# Altium integrated library Linear Technology Power Management Switching Regulator LTC1174-LTC3901.IntLib: 2647 symbols (part 96 of 364)
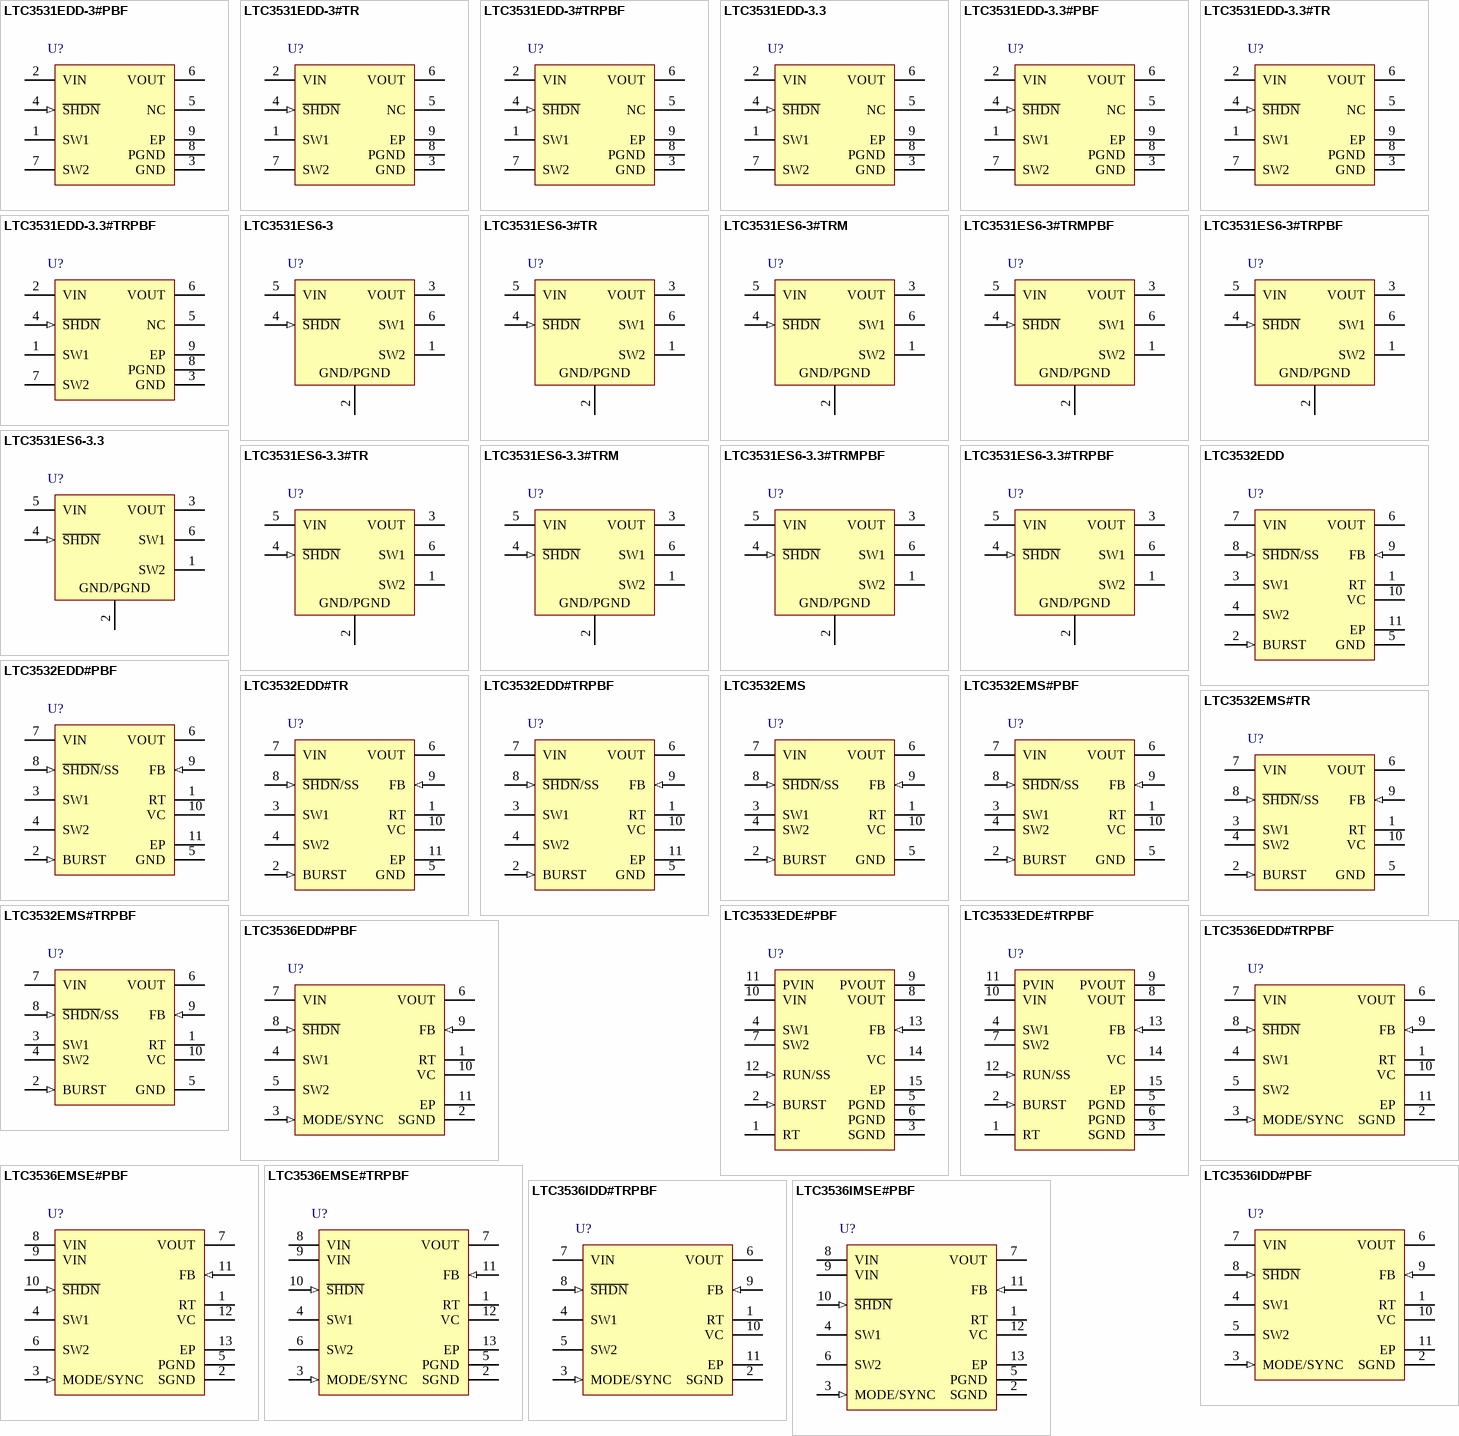
[diagram p164: symbols LTC3531EDD-3#PBF to LTC3536IMSE#PBF]

## LTC3532EMS#TRPBF
designator U?
Micropower Synchronous Buck-Boost DC/DC Converter, 10-pin SOP (MS-10), -40 to 85 degC, Pb-Free, Tape and Reel; Manufacturer: Linear Technology; PartNumber: LTC3532EMS#TRPBF; Frequency Adjust Range: 300kHz - 2MHz; Number of Outputs: 1; DatasheetVersion: Rev. C; PackageVersion: Rev. E, 06/2010; PackageReference: MS-10; PackageDescription: 10-Pin Plastic MSOP, Body 3 x 3 mm, Pitch 0.5 mm; Supplier 1: Digi-Key; Supplier Part Number 1: LTC3532EMS#TRPBF-ND; Packing: Tape and Reel; RoHS: TRUE; Mounting Technology: Surface Mount; ComponentLink1Description: Manufacturer URL; ComponentLink1URL: http://www.linear.com/; ComponentLink2Description: Datasheet; ComponentLink2URL: http://cds.linear.com/docs/en/datasheet/3532fc.pdf; ComponentLink3Description: Package Specification; ComponentLink3URL: http://cds.linear.com/docs/en/packaging/05081661_F_MS.pdf
footprint LT-MS-10_N (SOP, 10-Leads, Body 3.1x3.1mm, Pitch 0.5mm, IPC Medium Density)
footprint LT-MS-10_L (SOP, 10-Leads, Body 3.1x3.1mm, Pitch 0.5mm, IPC High Density)
footprint LT-MS-10_M (SOP, 10-Leads, Body 3.1x3.1mm, Pitch 0.5mm, IPC Low Density)
pins: 1 RT, 2 BURST (in) "Used to Set the Automatic Burst Mode Operation Threshold. Place a resistor and capacitor in parallel from this pin to ground. See the Applications Information section for component value selection. For manual control, ground (See Datasheet)", 3 SW1 "Switch Pin Where the Internal Switches A and B are Connected. Connect inductor from SW1 to SW2. An optional Schottky diode can be connected from SW1 to ground. Minimize trace length to minimize EMI.", 4 SW2 "Switch Pin Where the Internal Switches C and D are Connected. For applications with output voltages over 4.3V, a Schottky diode is required from SW2 to VOUT to ensure SW2 does not exhibit excess voltage.", 5 GND (power) "Signal and Power Ground for the IC.", 6 VOUT (power) "Output of the Synchronous Rectifier. A filter capacitor is placed from VOUT to GND.", 7 VIN (power) "Input Supply Pin. Supplies current to the inductor through SW1 and supplies internal VCC for the IC. A ceramic bypass capacitor as close to the VIN pin and GND (Pin 5) is required.", 8 ~{SHDN}/SS (in), 9 FB (in), 10 VC "Error Amp Output: A frequency compensation network is connected from this pin to the FB pin to compensate the loop. Refer to the Applications Information section for component value selection."

## LTC3533EDE#PBF
designator U?
2 A Wide Input Voltage Synchronous Buck-Boost DC/DC Converter, 14-pin SON (DE-14), -40 to 85 degC, Pb-Free; Manufacturer: Linear Technology; PartNumber: LTC3533EDE#PBF; Frequency Adjust Range: 300kHz - 2MHz; Number of Outputs: 1; PackageVersion: Rev. B, 06/2010; PackageReference: DE-14; PackageDescription: 14-Pin Plastic DFN, Body 4 x 3 mm, Pitch 0.5 mm; Supplier 1: Digi-Key; Supplier Part Number 1: LTC3533EDE#PBF-ND; Supplier 2: Farnell; Supplier Part Number 2: 1663712; Supplier 3: Newark; Supplier Part Number 3: 56M7960; RoHS: TRUE; Mounting Technology: Surface Mount; Code_JEDEC: MO-229; ComponentLink1Description: Manufacturer URL; ComponentLink1URL: http://www.linear.com/; ComponentLink2Description: Datasheet; ComponentLink2URL: http://cds.linear.com/docs/en/datasheet/3533f.pdf; ComponentLink3Description: Package Specification; ComponentLink3URL: http://www.linear.com/docs/en/packaging/DFN_14_05-08-1708.pdf
footprint LT-DE-14_V (SON, 14-Leads, Body 4x3mm, Pitch 0.5mm, Thermal Pad 3.3x1.7mm)
pins: 1 RT "Programs the Frequency of the Internal Oscillator. Connect a resistor from RT to ground. f(kHz) = 33,170/RT (kohm)", 2 BURST (in) "Used to set the Automatic Burst Mode Threshold. Connect a resistor and capacitor in parallel from this pin to ground. See the Applications Information section for component value selection. For manual control, ground the pin (See Datasheet)", 3 SGND (power) "Signal ground for the IC.", 4 SW1 "Switch Pin where Internal Switches A and B are Connected. Connect inductor from SW1 to SW2. An optional Schottky diode can be connected from SW1 to ground for a moderate efficiency improvement. Minimize trace length to (See Datasheet)", 5 PGND (power) "Power Ground for the Internal NMOS Power Switches.", 6 PGND (power) "Power Ground for the Internal NMOS Power Switches.", 7 SW2 "Switch Pin where Internal Switches C and D are Connected. An optional Schottky diode can be connected from SW2 to VOUT for a moderate efficiency improvement. For applications with output voltages over 4.3V, this Schottky (See Datasheet)", 8 VOUT (power) "Voltage Sensing Pin for PVOUT and Input Supply Pin for Internal Circuitry Powered by PVOUT. A filter capacitor is placed from VOUT to GND. A ceramic bypass capacitor is recommended as close to the VOUT and GND pins as (See Datasheet)", 9 PVOUT (power) "Output of the Synchronous Rectifier. A filter capacitor is placed from PVOUT to PGND. A ceramic bypass capacitor is recommended as close to the PVOUT and PGND pins as possible.", 10 VIN (power) "Input Supply Pin. Internal VCC for the IC.", 11 PVIN (power) "Power VIN Supply Pin. A 10uF ceramic capacitor is recommended as close to the PVIN and PGND pins as possible.", 12 RUN/SS (in) "Combined Enable and Soft-Start. Applied voltage <0.4V shuts down the IC. Tie to >1.4V to enable the IC and >1.6V to ensure the error amp is not clamped from soft-start. An RC from the shutdown command signal to this pin will (See Datasheet)", 13 FB (in) "Feedback Pin. Connect resistor divider tap here. The output voltage can be adjusted from 1.8V to 5.25V. The feedback reference voltage is typically 1.22V.", 14 VC "Error Amp Output. An R-C network is connected from this pin to FB for loop compensation. Refer to “Closing the Feedback Loop” section for component selection guidelines. During Burst Mode operation, VC is internal(See Datasheet)", 15 EP (power) "IC Substrate Ground. This pin must be soldered to the PCB ground to provide both electrical contact and a good thermal contact to the PCB."

## LTC3533EDE#TRPBF
designator U?
2 A Wide Input Voltage Synchronous Buck-Boost DC/DC Converter, 14-pin SON (DE-14), -40 to 85 degC, Pb-Free, Tape and Reel; Manufacturer: Linear Technology; PartNumber: LTC3533EDE#TRPBF; Frequency Adjust Range: 300kHz - 2MHz; Number of Outputs: 1; PackageVersion: Rev. B, 06/2010; PackageReference: DE-14; PackageDescription: 14-Pin Plastic DFN, Body 4 x 3 mm, Pitch 0.5 mm; Supplier 1: Digi-Key; Supplier Part Number 1: LTC3533EDE#TRPBF-ND; Supplier 2: Newark; Supplier Part Number 2: 56M7961; Packing: Tape and Reel; RoHS: TRUE; Mounting Technology: Surface Mount; Code_JEDEC: MO-229; ComponentLink1Description: Manufacturer URL; ComponentLink1URL: http://www.linear.com/; ComponentLink2Description: Datasheet; ComponentLink2URL: http://cds.linear.com/docs/en/datasheet/3533f.pdf; ComponentLink3Description: Package Specification; ComponentLink3URL: http://www.linear.com/docs/en/packaging/DFN_14_05-08-1708.pdf
footprint LT-DE-14_V (SON, 14-Leads, Body 4x3mm, Pitch 0.5mm, Thermal Pad 3.3x1.7mm)
pins: 1 RT "Programs the Frequency of the Internal Oscillator. Connect a resistor from RT to ground. f(kHz) = 33,170/RT (kohm)", 2 BURST (in) "Used to set the Automatic Burst Mode Threshold. Connect a resistor and capacitor in parallel from this pin to ground. See the Applications Information section for component value selection. For manual control, ground the pin (See Datasheet)", 3 SGND (power) "Signal ground for the IC.", 4 SW1 "Switch Pin where Internal Switches A and B are Connected. Connect inductor from SW1 to SW2. An optional Schottky diode can be connected from SW1 to ground for a moderate efficiency improvement. Minimize trace length to (See Datasheet)", 5 PGND (power) "Power Ground for the Internal NMOS Power Switches.", 6 PGND (power) "Power Ground for the Internal NMOS Power Switches.", 7 SW2 "Switch Pin where Internal Switches C and D are Connected. An optional Schottky diode can be connected from SW2 to VOUT for a moderate efficiency improvement. For applications with output voltages over 4.3V, this Schottky (See Datasheet)", 8 VOUT (power) "Voltage Sensing Pin for PVOUT and Input Supply Pin for Internal Circuitry Powered by PVOUT. A filter capacitor is placed from VOUT to GND. A ceramic bypass capacitor is recommended as close to the VOUT and GND pins as (See Datasheet)", 9 PVOUT (power) "Output of the Synchronous Rectifier. A filter capacitor is placed from PVOUT to PGND. A ceramic bypass capacitor is recommended as close to the PVOUT and PGND pins as possible.", 10 VIN (power) "Input Supply Pin. Internal VCC for the IC.", 11 PVIN (power) "Power VIN Supply Pin. A 10uF ceramic capacitor is recommended as close to the PVIN and PGND pins as possible.", 12 RUN/SS (in) "Combined Enable and Soft-Start. Applied voltage <0.4V shuts down the IC. Tie to >1.4V to enable the IC and >1.6V to ensure the error amp is not clamped from soft-start. An RC from the shutdown command signal to this pin will (See Datasheet)", 13 FB (in) "Feedback Pin. Connect resistor divider tap here. The output voltage can be adjusted from 1.8V to 5.25V. The feedback reference voltage is typically 1.22V.", 14 VC "Error Amp Output. An R-C network is connected from this pin to FB for loop compensation. Refer to “Closing the Feedback Loop” section for component selection guidelines. During Burst Mode operation, VC is internal(See Datasheet)", 15 EP (power) "IC Substrate Ground. This pin must be soldered to the PCB ground to provide both electrical contact and a good thermal contact to the PCB."

## LTC3536EDD#PBF
designator U?
1 A Low Noise, Buck-Boost DC/DC Converter, 10-pin SON (DD-10), -40 to 125 degC, Pb-Free; Manufacturer: Linear Technology; PartNumber: LTC3536EDD#PBF; Frequency Adjust Range: 300kHz - 2MHz; Number of Outputs: 1; DatasheetVersion: Rev. A; PackageVersion: Rev. C, 06/2010; PackageReference: DD-10; PackageDescription: 10-Pin Plastic DFN, Body 3 x 3 mm, Pitch 0.5 mm; Supplier 1: Digi-Key; Supplier Part Number 1: LTC3536EDD#PBF-ND; Supplier 2: Newark; Supplier Part Number 2: 59T9321; RoHS: TRUE; Mounting Technology: Surface Mount; Code_JEDEC: MO-229; ComponentLink1Description: Manufacturer URL; ComponentLink1URL: http://www.linear.com/; ComponentLink2Description: Datasheet; ComponentLink2URL: http://cds.linear.com/docs/en/datasheet/3536fa.pdf; ComponentLink3Description: Package Specification; ComponentLink3URL: http://cds.linear.com/docs/en/packaging/DFN_10_05-08-1699.pdf
footprint LT-DD-10_V (SON, 10-Leads, Body 3x3mm, Pitch 0.5mm, Thermal Pad 2.38x1.65mm)
pins: 1 RT "Oscillator Frequency Programming Input. Connect a resistor from RT to GND to program the internal oscillator frequency. The frequency is given by: fOSC (MHz) = 100/RT (kohm) where RT is in kohm and fOSC is between 0.3MHz and (See Datasheet)", 2 SGND (power) "Ground Connection for the LTC3536. A ground plane is highly recommended. Sensitive analog components terminated at ground should connect to the GND pin with a Kelvin connection, separated from the high current path", 3 MODE/SYNC (in) "Pulse Width Modulation/Burst Mode Selection and Synchronization Input. Driving MODE to a logic 0 state programs fixed frequency, low noise PWM operation. Driving MODE to logic 1 state programs Burst Mode operation for (See Datasheet)", 4 SW1 "Switch Pin. Connect to internal power switches A and B. Connect one side of the buck-boost inductor to SW1. Provide a short wide PCB trace from the inductor to SW1 to minimize voltage transients and noise", 5 SW2 "Switch Pin. Connect to internal power switches C and D. Connect one side of the buck-boost inductor to SW2. Provide a short wide PCB trace from the inductor to SW2 to minimize voltage transients and noise", 6 VOUT (power) "Output Voltage. This pin is the power output for the regulator. A low ESR capacitor should be placed between this pin and the ground plane. The capacitor should be placed as close to this pin as possible and have a short (See Datasheet)", 7 VIN (power) "Power Input for the Converter. A low ESR 10uF or larger bypass capacitor should be connected between this pin and ground. The capacitor should be placed as close to this pin as possible and have a short return path to ground.", 8 ~{SHDN} (in) "Enable Input. A logic 1 on S\H\D\N\ activates the buck-boost regulator. A logic 0 on S\H\D\N\ deactivates the buck-boost regulator.", 9 FB (in) "Output Voltage Programming Feedback Divider Input. The regulator output voltage is programmed by the voltage divider connected to FB.", 10 VC "Error Amplifier Output. Frequency compensation components are connected between VC and FB to provide stable operation of the converter. Refer to the Applications Information section of this data sheet for design details.", 11 EP (power) "Power Ground. The exposed pad must be soldered to the PCB and electrically connected to ground through the shortest and lowest impedance connection possible"

## LTC3536EDD#TRPBF
designator U?
1 A Low Noise, Buck-Boost DC/DC Converter, 10-pin SON (DD-10), -40 to 125 degC, Pb-Free, Tape and Reel; Manufacturer: Linear Technology; PartNumber: LTC3536EDD#TRPBF; Frequency Adjust Range: 300kHz - 2MHz; Number of Outputs: 1; DatasheetVersion: Rev. A; PackageVersion: Rev. C, 06/2010; PackageReference: DD-10; PackageDescription: 10-Pin Plastic DFN, Body 3 x 3 mm, Pitch 0.5 mm; Supplier 1: Digi-Key; Supplier Part Number 1: LTC3536EDD#TRPBF-ND; Packing: Tape and Reel; RoHS: TRUE; Mounting Technology: Surface Mount; Code_JEDEC: MO-229; ComponentLink1Description: Manufacturer URL; ComponentLink1URL: http://www.linear.com/; ComponentLink2Description: Datasheet; ComponentLink2URL: http://cds.linear.com/docs/en/datasheet/3536fa.pdf; ComponentLink3Description: Package Specification; ComponentLink3URL: http://cds.linear.com/docs/en/packaging/DFN_10_05-08-1699.pdf
footprint LT-DD-10_V (SON, 10-Leads, Body 3x3mm, Pitch 0.5mm, Thermal Pad 2.38x1.65mm)
pins: 1 RT "Oscillator Frequency Programming Input. Connect a resistor from RT to GND to program the internal oscillator frequency. The frequency is given by: fOSC (MHz) = 100/RT (kohm) where RT is in kohm and fOSC is between 0.3MHz and (See Datasheet)", 2 SGND (power) "Ground Connection for the LTC3536. A ground plane is highly recommended. Sensitive analog components terminated at ground should connect to the GND pin with a Kelvin connection, separated from the high current path", 3 MODE/SYNC (in) "Pulse Width Modulation/Burst Mode Selection and Synchronization Input. Driving MODE to a logic 0 state programs fixed frequency, low noise PWM operation. Driving MODE to logic 1 state programs Burst Mode operation for (See Datasheet)", 4 SW1 "Switch Pin. Connect to internal power switches A and B. Connect one side of the buck-boost inductor to SW1. Provide a short wide PCB trace from the inductor to SW1 to minimize voltage transients and noise", 5 SW2 "Switch Pin. Connect to internal power switches C and D. Connect one side of the buck-boost inductor to SW2. Provide a short wide PCB trace from the inductor to SW2 to minimize voltage transients and noise", 6 VOUT (power) "Output Voltage. This pin is the power output for the regulator. A low ESR capacitor should be placed between this pin and the ground plane. The capacitor should be placed as close to this pin as possible and have a short (See Datasheet)", 7 VIN (power) "Power Input for the Converter. A low ESR 10uF or larger bypass capacitor should be connected between this pin and ground. The capacitor should be placed as close to this pin as possible and have a short return path to ground.", 8 ~{SHDN} (in) "Enable Input. A logic 1 on S\H\D\N\ activates the buck-boost regulator. A logic 0 on S\H\D\N\ deactivates the buck-boost regulator.", 9 FB (in) "Output Voltage Programming Feedback Divider Input. The regulator output voltage is programmed by the voltage divider connected to FB.", 10 VC "Error Amplifier Output. Frequency compensation components are connected between VC and FB to provide stable operation of the converter. Refer to the Applications Information section of this data sheet for design details.", 11 EP (power) "Power Ground. The exposed pad must be soldered to the PCB and electrically connected to ground through the shortest and lowest impedance connection possible"

## LTC3536EMSE#PBF
designator U?
1 A Low Noise, Buck-Boost DC/DC Converter, 12-pin SOP (MSE-12-EDP), -40 to 125 degC, Pb-Free; Manufacturer: Linear Technology; PartNumber: LTC3536EMSE#PBF; Frequency Adjust Range: 300kHz - 2MHz; Number of Outputs: 1; DatasheetVersion: Rev. A; PackageVersion: Rev. G, 05/2013; PackageReference: MSE-12-EDP; PackageDescription: 12-Pin Plastic MSOP, Exposed Die Pad, Body 4.039 x 3 mm, Pitch 0.65 mm; Supplier 1: Digi-Key; Supplier Part Number 1: LTC3536EMSE#PBF-ND; Supplier 2: Farnell; Supplier Part Number 2: 2009059; Supplier 3: Newark; Supplier Part Number 3: 59T9323; RoHS: TRUE; Mounting Technology: Surface Mount; ComponentLink1Description: Manufacturer URL; ComponentLink1URL: http://www.linear.com/; ComponentLink2Description: Datasheet; ComponentLink2URL: http://cds.linear.com/docs/en/datasheet/3536fa.pdf; ComponentLink3Description: Package Specification; ComponentLink3URL: http://cds.linear.com/docs/en/packaging/05081666_G_MSE12.pdf
footprint LT-MSE-12-EDP_N (SOP, 12-Leads, Body 4.1x3.1mm, Pitch 0.65mm, Thermal Pad 2.95x1.76mm, IPC Medium Density)
footprint LT-MSE-12-EDP_L (SOP, 12-Leads, Body 4.1x3.1mm, Pitch 0.65mm, Thermal Pad 2.95x1.76mm, IPC High Density)
footprint LT-MSE-12-EDP_M (SOP, 12-Leads, Body 4.1x3.1mm, Pitch 0.65mm, Thermal Pad 2.95x1.76mm, IPC Low Density)
pins: 1 RT "Oscillator Frequency Programming Input. Connect a resistor from RT to GND to program the internal oscillator frequency. The frequency is given by: fOSC (MHz) = 100/RT (kohm) where RT is in kohm and fOSC is between 0.3MHz and (See Datasheet)", 2 SGND (power) "Ground Connection for the LTC3536. A ground plane is highly recommended. Sensitive analog components terminated at ground should connect to the GND pin with a Kelvin connection, separated from the high current path", 3 MODE/SYNC (in) "Pulse Width Modulation/Burst Mode Selection and Synchronization Input. Driving MODE to a logic 0 state programs fixed frequency, low noise PWM operation. Driving MODE to logic 1 state programs Burst Mode operation for (See Datasheet)", 4 SW1 "Switch Pin. Connect to internal power switches A and B. Connect one side of the buck-boost inductor to SW1. Provide a short wide PCB trace from the inductor to SW1 to minimize voltage transients and noise", 5 PGND (power) "Power Ground.", 6 SW2 "Switch Pin. Connect to internal power switches C and D. Connect one side of the buck-boost inductor to SW2. Provide a short wide PCB trace from the inductor to SW2 to minimize voltage transients and noise", 7 VOUT (power) "Output Voltage. This pin is the power output for the regulator. A low ESR capacitor should be placed between this pin and the ground plane. The capacitor should be placed as close to this pin as possible and have a short (See Datasheet)", 8 VIN (power) "Power Input for the Converter. A low ESR 10uF or larger bypass capacitor should be connected between this pin and ground. The capacitor should be placed as close to this pin as possible and have a short return path to ground.", 9 VIN (power) "Power Input for the Converter. A low ESR 10uF or larger bypass capacitor should be connected between this pin and ground. The capacitor should be placed as close to this pin as possible and have a short return path to ground.", 10 ~{SHDN} (in) "Enable Input. A logic 1 on S\H\D\N\ activates the buck-boost regulator. A logic 0 on S\H\D\N\ deactivates the buck-boost regulator.", 11 FB (in) "Output Voltage Programming Feedback Divider Input. The regulator output voltage is programmed by the voltage divider connected to FB.", 12 VC "Error Amplifier Output. Frequency compensation components are connected between VC and FB to provide stable operation of the converter. Refer to the Applications Information section of this data sheet for design details.", 13 EP (power) "Power Ground. The exposed pad must be soldered to the PCB and electrically connected to ground through the shortest and lowest impedance connection possible"

## LTC3536EMSE#TRPBF
designator U?
1 A Low Noise, Buck-Boost DC/DC Converter, 12-pin SOP (MSE-12-EDP), -40 to 125 degC, Pb-Free, Tape and Reel; Manufacturer: Linear Technology; PartNumber: LTC3536EMSE#TRPBF; Frequency Adjust Range: 300kHz - 2MHz; Number of Outputs: 1; DatasheetVersion: Rev. A; PackageVersion: Rev. G, 05/2013; PackageReference: MSE-12-EDP; PackageDescription: 12-Pin Plastic MSOP, Exposed Die Pad, Body 4.039 x 3 mm, Pitch 0.65 mm; Supplier 1: Digi-Key; Supplier Part Number 1: LTC3536EMSE#TRPBF-ND; Packing: Tape and Reel; RoHS: TRUE; Mounting Technology: Surface Mount; ComponentLink1Description: Manufacturer URL; ComponentLink1URL: http://www.linear.com/; ComponentLink2Description: Datasheet; ComponentLink2URL: http://cds.linear.com/docs/en/datasheet/3536fa.pdf; ComponentLink3Description: Package Specification; ComponentLink3URL: http://cds.linear.com/docs/en/packaging/05081666_G_MSE12.pdf
footprint LT-MSE-12-EDP_N (SOP, 12-Leads, Body 4.1x3.1mm, Pitch 0.65mm, Thermal Pad 2.95x1.76mm, IPC Medium Density)
footprint LT-MSE-12-EDP_L (SOP, 12-Leads, Body 4.1x3.1mm, Pitch 0.65mm, Thermal Pad 2.95x1.76mm, IPC High Density)
footprint LT-MSE-12-EDP_M (SOP, 12-Leads, Body 4.1x3.1mm, Pitch 0.65mm, Thermal Pad 2.95x1.76mm, IPC Low Density)
pins: 1 RT "Oscillator Frequency Programming Input. Connect a resistor from RT to GND to program the internal oscillator frequency. The frequency is given by: fOSC (MHz) = 100/RT (kohm) where RT is in kohm and fOSC is between 0.3MHz and (See Datasheet)", 2 SGND (power) "Ground Connection for the LTC3536. A ground plane is highly recommended. Sensitive analog components terminated at ground should connect to the GND pin with a Kelvin connection, separated from the high current path", 3 MODE/SYNC (in) "Pulse Width Modulation/Burst Mode Selection and Synchronization Input. Driving MODE to a logic 0 state programs fixed frequency, low noise PWM operation. Driving MODE to logic 1 state programs Burst Mode operation for (See Datasheet)", 4 SW1 "Switch Pin. Connect to internal power switches A and B. Connect one side of the buck-boost inductor to SW1. Provide a short wide PCB trace from the inductor to SW1 to minimize voltage transients and noise", 5 PGND (power) "Power Ground.", 6 SW2 "Switch Pin. Connect to internal power switches C and D. Connect one side of the buck-boost inductor to SW2. Provide a short wide PCB trace from the inductor to SW2 to minimize voltage transients and noise", 7 VOUT (power) "Output Voltage. This pin is the power output for the regulator. A low ESR capacitor should be placed between this pin and the ground plane. The capacitor should be placed as close to this pin as possible and have a short (See Datasheet)", 8 VIN (power) "Power Input for the Converter. A low ESR 10uF or larger bypass capacitor should be connected between this pin and ground. The capacitor should be placed as close to this pin as possible and have a short return path to ground.", 9 VIN (power) "Power Input for the Converter. A low ESR 10uF or larger bypass capacitor should be connected between this pin and ground. The capacitor should be placed as close to this pin as possible and have a short return path to ground.", 10 ~{SHDN} (in) "Enable Input. A logic 1 on S\H\D\N\ activates the buck-boost regulator. A logic 0 on S\H\D\N\ deactivates the buck-boost regulator.", 11 FB (in) "Output Voltage Programming Feedback Divider Input. The regulator output voltage is programmed by the voltage divider connected to FB.", 12 VC "Error Amplifier Output. Frequency compensation components are connected between VC and FB to provide stable operation of the converter. Refer to the Applications Information section of this data sheet for design details.", 13 EP (power) "Power Ground. The exposed pad must be soldered to the PCB and electrically connected to ground through the shortest and lowest impedance connection possible"

## LTC3536IDD#PBF
designator U?
1 A Low Noise, Buck-Boost DC/DC Converter, 10-pin SON (DD-10), -40 to 125 degC, Pb-Free; Manufacturer: Linear Technology; PartNumber: LTC3536IDD#PBF; Frequency Adjust Range: 300kHz - 2MHz; Number of Outputs: 1; DatasheetVersion: Rev. A; PackageVersion: Rev. C, 06/2010; PackageReference: DD-10; PackageDescription: 10-Pin Plastic DFN, Body 3 x 3 mm, Pitch 0.5 mm; Supplier 1: Digi-Key; Supplier Part Number 1: LTC3536IDD#PBF-ND; Supplier 2: Newark; Supplier Part Number 2: 59T9325; RoHS: TRUE; Mounting Technology: Surface Mount; Code_JEDEC: MO-229; ComponentLink1Description: Manufacturer URL; ComponentLink1URL: http://www.linear.com/; ComponentLink2Description: Datasheet; ComponentLink2URL: http://cds.linear.com/docs/en/datasheet/3536fa.pdf; ComponentLink3Description: Package Specification; ComponentLink3URL: http://cds.linear.com/docs/en/packaging/DFN_10_05-08-1699.pdf
footprint LT-DD-10_V (SON, 10-Leads, Body 3x3mm, Pitch 0.5mm, Thermal Pad 2.38x1.65mm)
pins: 1 RT "Oscillator Frequency Programming Input. Connect a resistor from RT to GND to program the internal oscillator frequency. The frequency is given by: fOSC (MHz) = 100/RT (kohm) where RT is in kohm and fOSC is between 0.3MHz and (See Datasheet)", 2 SGND (power) "Ground Connection for the LTC3536. A ground plane is highly recommended. Sensitive analog components terminated at ground should connect to the GND pin with a Kelvin connection, separated from the high current path", 3 MODE/SYNC (in) "Pulse Width Modulation/Burst Mode Selection and Synchronization Input. Driving MODE to a logic 0 state programs fixed frequency, low noise PWM operation. Driving MODE to logic 1 state programs Burst Mode operation for (See Datasheet)", 4 SW1 "Switch Pin. Connect to internal power switches A and B. Connect one side of the buck-boost inductor to SW1. Provide a short wide PCB trace from the inductor to SW1 to minimize voltage transients and noise", 5 SW2 "Switch Pin. Connect to internal power switches C and D. Connect one side of the buck-boost inductor to SW2. Provide a short wide PCB trace from the inductor to SW2 to minimize voltage transients and noise", 6 VOUT (power) "Output Voltage. This pin is the power output for the regulator. A low ESR capacitor should be placed between this pin and the ground plane. The capacitor should be placed as close to this pin as possible and have a short (See Datasheet)", 7 VIN (power) "Power Input for the Converter. A low ESR 10uF or larger bypass capacitor should be connected between this pin and ground. The capacitor should be placed as close to this pin as possible and have a short return path to ground.", 8 ~{SHDN} (in) "Enable Input. A logic 1 on S\H\D\N\ activates the buck-boost regulator. A logic 0 on S\H\D\N\ deactivates the buck-boost regulator.", 9 FB (in) "Output Voltage Programming Feedback Divider Input. The regulator output voltage is programmed by the voltage divider connected to FB.", 10 VC "Error Amplifier Output. Frequency compensation components are connected between VC and FB to provide stable operation of the converter. Refer to the Applications Information section of this data sheet for design details.", 11 EP (power) "Power Ground. The exposed pad must be soldered to the PCB and electrically connected to ground through the shortest and lowest impedance connection possible"

## LTC3536IDD#TRPBF
designator U?
1 A Low Noise, Buck-Boost DC/DC Converter, 10-pin SON (DD-10), -40 to 125 degC, Pb-Free, Tape and Reel; Manufacturer: Linear Technology; PartNumber: LTC3536IDD#TRPBF; Frequency Adjust Range: 300kHz - 2MHz; Number of Outputs: 1; DatasheetVersion: Rev. A; PackageVersion: Rev. C, 06/2010; PackageReference: DD-10; PackageDescription: 10-Pin Plastic DFN, Body 3 x 3 mm, Pitch 0.5 mm; Supplier 1: Digi-Key; Supplier Part Number 1: LTC3536IDD#TRPBF-ND; Supplier 2: Newark; Supplier Part Number 2: 59T9326; Packing: Tape and Reel; RoHS: TRUE; Mounting Technology: Surface Mount; Code_JEDEC: MO-229; ComponentLink1Description: Manufacturer URL; ComponentLink1URL: http://www.linear.com/; ComponentLink2Description: Datasheet; ComponentLink2URL: http://cds.linear.com/docs/en/datasheet/3536fa.pdf; ComponentLink3Description: Package Specification; ComponentLink3URL: http://cds.linear.com/docs/en/packaging/DFN_10_05-08-1699.pdf
footprint LT-DD-10_V (SON, 10-Leads, Body 3x3mm, Pitch 0.5mm, Thermal Pad 2.38x1.65mm)
pins: 1 RT "Oscillator Frequency Programming Input. Connect a resistor from RT to GND to program the internal oscillator frequency. The frequency is given by: fOSC (MHz) = 100/RT (kohm) where RT is in kohm and fOSC is between 0.3MHz and (See Datasheet)", 2 SGND (power) "Ground Connection for the LTC3536. A ground plane is highly recommended. Sensitive analog components terminated at ground should connect to the GND pin with a Kelvin connection, separated from the high current path", 3 MODE/SYNC (in) "Pulse Width Modulation/Burst Mode Selection and Synchronization Input. Driving MODE to a logic 0 state programs fixed frequency, low noise PWM operation. Driving MODE to logic 1 state programs Burst Mode operation for (See Datasheet)", 4 SW1 "Switch Pin. Connect to internal power switches A and B. Connect one side of the buck-boost inductor to SW1. Provide a short wide PCB trace from the inductor to SW1 to minimize voltage transients and noise", 5 SW2 "Switch Pin. Connect to internal power switches C and D. Connect one side of the buck-boost inductor to SW2. Provide a short wide PCB trace from the inductor to SW2 to minimize voltage transients and noise", 6 VOUT (power) "Output Voltage. This pin is the power output for the regulator. A low ESR capacitor should be placed between this pin and the ground plane. The capacitor should be placed as close to this pin as possible and have a short (See Datasheet)", 7 VIN (power) "Power Input for the Converter. A low ESR 10uF or larger bypass capacitor should be connected between this pin and ground. The capacitor should be placed as close to this pin as possible and have a short return path to ground.", 8 ~{SHDN} (in) "Enable Input. A logic 1 on S\H\D\N\ activates the buck-boost regulator. A logic 0 on S\H\D\N\ deactivates the buck-boost regulator.", 9 FB (in) "Output Voltage Programming Feedback Divider Input. The regulator output voltage is programmed by the voltage divider connected to FB.", 10 VC "Error Amplifier Output. Frequency compensation components are connected between VC and FB to provide stable operation of the converter. Refer to the Applications Information section of this data sheet for design details.", 11 EP (power) "Power Ground. The exposed pad must be soldered to the PCB and electrically connected to ground through the shortest and lowest impedance connection possible"

## LTC3536IMSE#PBF
designator U?
1 A Low Noise, Buck-Boost DC/DC Converter, 12-pin SOP (MSE-12-EDP), -40 to 125 degC, Pb-Free; Manufacturer: Linear Technology; PartNumber: LTC3536IMSE#PBF; Frequency Adjust Range: 300kHz - 2MHz; Number of Outputs: 1; DatasheetVersion: Rev. A; PackageVersion: Rev. G, 05/2013; PackageReference: MSE-12-EDP; PackageDescription: 12-Pin Plastic MSOP, Exposed Die Pad, Body 4.039 x 3 mm, Pitch 0.65 mm; Supplier 1: Digi-Key; Supplier Part Number 1: LTC3536IMSE#PBF-ND; RoHS: TRUE; Mounting Technology: Surface Mount; ComponentLink1Description: Manufacturer URL; ComponentLink1URL: http://www.linear.com/; ComponentLink2Description: Datasheet; ComponentLink2URL: http://cds.linear.com/docs/en/datasheet/3536fa.pdf; ComponentLink3Description: Package Specification; ComponentLink3URL: http://cds.linear.com/docs/en/packaging/05081666_G_MSE12.pdf
footprint LT-MSE-12-EDP_N (SOP, 12-Leads, Body 4.1x3.1mm, Pitch 0.65mm, Thermal Pad 2.95x1.76mm, IPC Medium Density)
footprint LT-MSE-12-EDP_L (SOP, 12-Leads, Body 4.1x3.1mm, Pitch 0.65mm, Thermal Pad 2.95x1.76mm, IPC High Density)
footprint LT-MSE-12-EDP_M (SOP, 12-Leads, Body 4.1x3.1mm, Pitch 0.65mm, Thermal Pad 2.95x1.76mm, IPC Low Density)
pins: 1 RT "Oscillator Frequency Programming Input. Connect a resistor from RT to GND to program the internal oscillator frequency. The frequency is given by: fOSC (MHz) = 100/RT (kohm) where RT is in kohm and fOSC is between 0.3MHz and (See Datasheet)", 2 SGND (power) "Ground Connection for the LTC3536. A ground plane is highly recommended. Sensitive analog components terminated at ground should connect to the GND pin with a Kelvin connection, separated from the high current path", 3 MODE/SYNC (in) "Pulse Width Modulation/Burst Mode Selection and Synchronization Input. Driving MODE to a logic 0 state programs fixed frequency, low noise PWM operation. Driving MODE to logic 1 state programs Burst Mode operation for (See Datasheet)", 4 SW1 "Switch Pin. Connect to internal power switches A and B. Connect one side of the buck-boost inductor to SW1. Provide a short wide PCB trace from the inductor to SW1 to minimize voltage transients and noise", 5 PGND (power) "Power Ground.", 6 SW2 "Switch Pin. Connect to internal power switches C and D. Connect one side of the buck-boost inductor to SW2. Provide a short wide PCB trace from the inductor to SW2 to minimize voltage transients and noise", 7 VOUT (power) "Output Voltage. This pin is the power output for the regulator. A low ESR capacitor should be placed between this pin and the ground plane. The capacitor should be placed as close to this pin as possible and have a short (See Datasheet)", 8 VIN (power) "Power Input for the Converter. A low ESR 10uF or larger bypass capacitor should be connected between this pin and ground. The capacitor should be placed as close to this pin as possible and have a short return path to ground.", 9 VIN (power) "Power Input for the Converter. A low ESR 10uF or larger bypass capacitor should be connected between this pin and ground. The capacitor should be placed as close to this pin as possible and have a short return path to ground.", 10 ~{SHDN} (in) "Enable Input. A logic 1 on S\H\D\N\ activates the buck-boost regulator. A logic 0 on S\H\D\N\ deactivates the buck-boost regulator.", 11 FB (in) "Output Voltage Programming Feedback Divider Input. The regulator output voltage is programmed by the voltage divider connected to FB.", 12 VC "Error Amplifier Output. Frequency compensation components are connected between VC and FB to provide stable operation of the converter. Refer to the Applications Information section of this data sheet for design details.", 13 EP (power) "Power Ground. The exposed pad must be soldered to the PCB and electrically connected to ground through the shortest and lowest impedance connection possible"

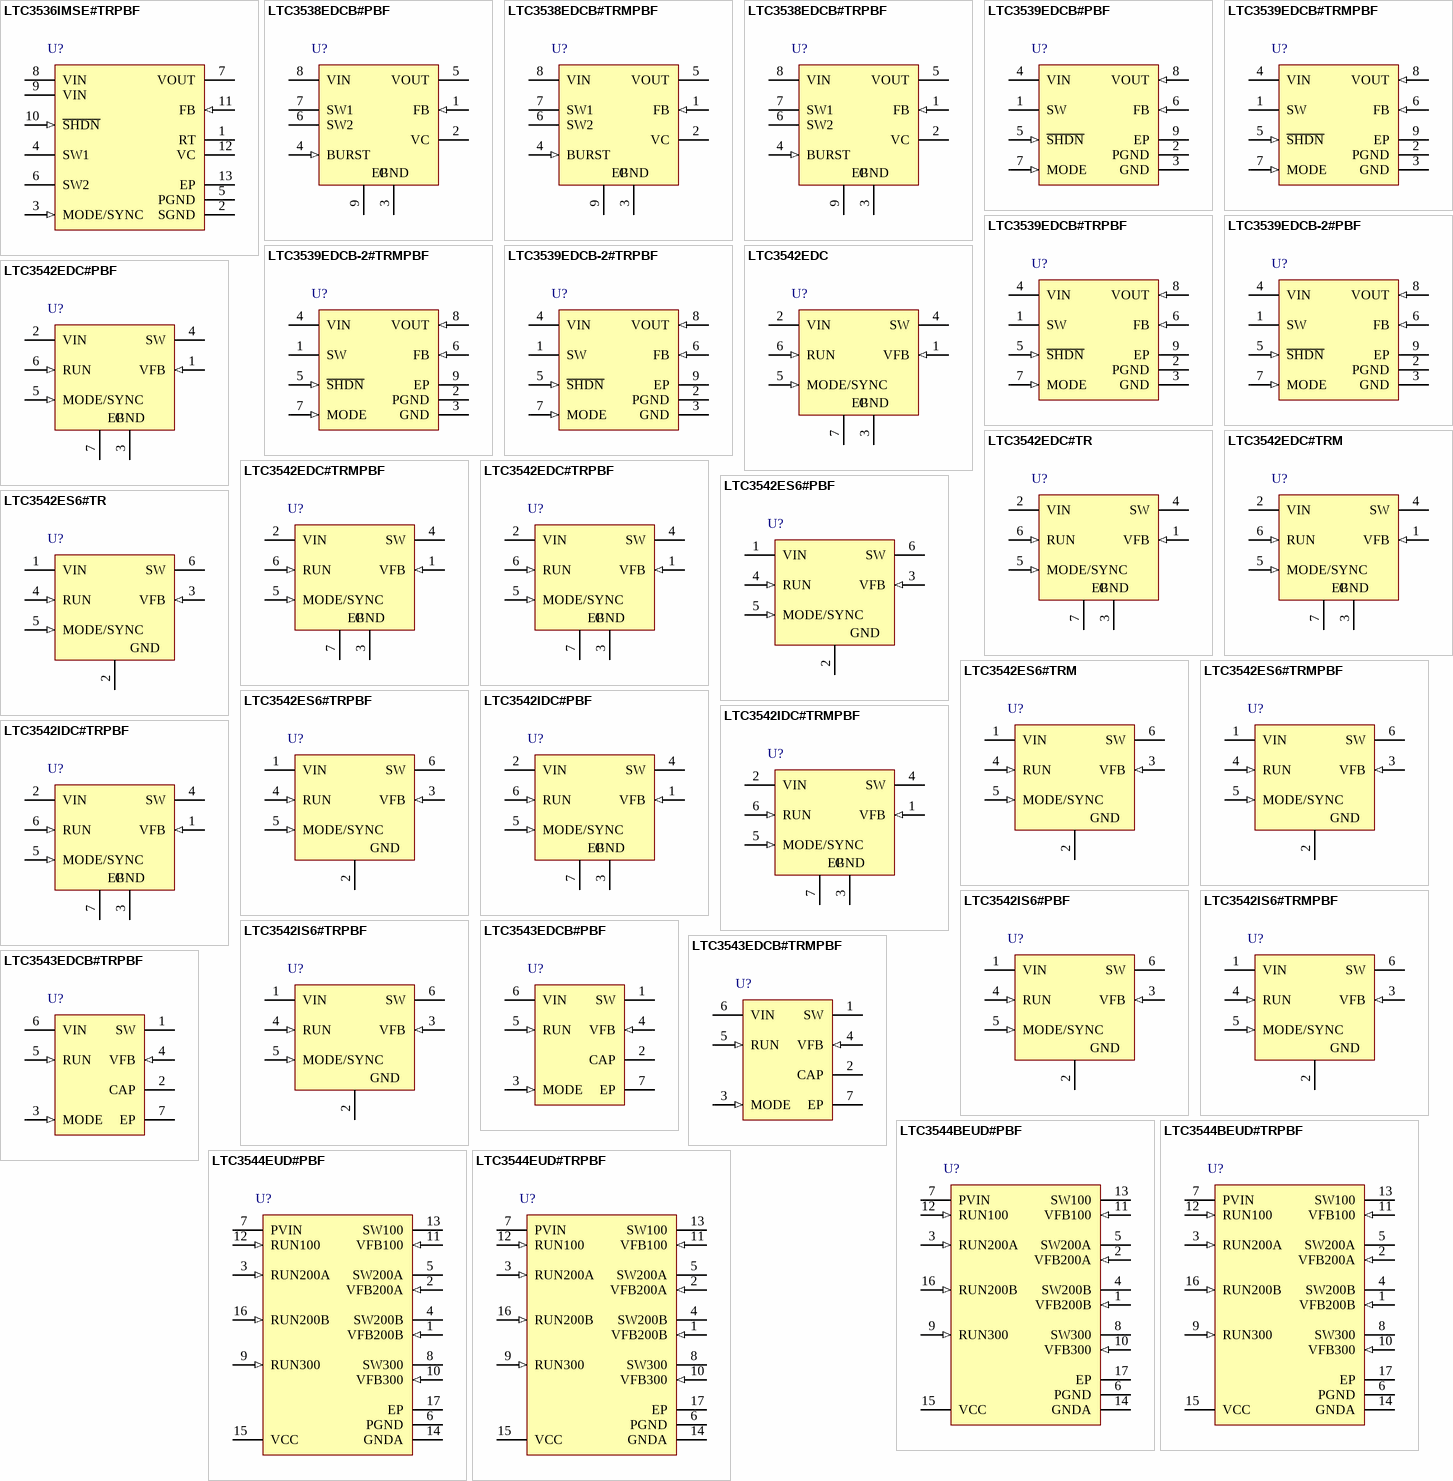
[diagram p31: symbols LTC3536IMSE#TRPBF to LTC3544EUD#TRPBF]

## LTC3536IMSE#TRPBF
designator U?
1 A Low Noise, Buck-Boost DC/DC Converter, 12-pin SOP (MSE-12-EDP), -40 to 125 degC, Pb-Free, Tape and Reel; Manufacturer: Linear Technology; PartNumber: LTC3536IMSE#TRPBF; Frequency Adjust Range: 300kHz - 2MHz; Number of Outputs: 1; DatasheetVersion: Rev. A; PackageVersion: Rev. G, 05/2013; PackageReference: MSE-12-EDP; PackageDescription: 12-Pin Plastic MSOP, Exposed Die Pad, Body 4.039 x 3 mm, Pitch 0.65 mm; Supplier 1: Digi-Key; Supplier Part Number 1: LTC3536IMSE#TRPBF-ND; Packing: Tape and Reel; RoHS: TRUE; Mounting Technology: Surface Mount; ComponentLink1Description: Manufacturer URL; ComponentLink1URL: http://www.linear.com/; ComponentLink2Description: Datasheet; ComponentLink2URL: http://cds.linear.com/docs/en/datasheet/3536fa.pdf; ComponentLink3Description: Package Specification; ComponentLink3URL: http://cds.linear.com/docs/en/packaging/05081666_G_MSE12.pdf
footprint LT-MSE-12-EDP_N (SOP, 12-Leads, Body 4.1x3.1mm, Pitch 0.65mm, Thermal Pad 2.95x1.76mm, IPC Medium Density)
footprint LT-MSE-12-EDP_L (SOP, 12-Leads, Body 4.1x3.1mm, Pitch 0.65mm, Thermal Pad 2.95x1.76mm, IPC High Density)
footprint LT-MSE-12-EDP_M (SOP, 12-Leads, Body 4.1x3.1mm, Pitch 0.65mm, Thermal Pad 2.95x1.76mm, IPC Low Density)
pins: 1 RT "Oscillator Frequency Programming Input. Connect a resistor from RT to GND to program the internal oscillator frequency. The frequency is given by: fOSC (MHz) = 100/RT (kohm) where RT is in kohm and fOSC is between 0.3MHz and (See Datasheet)", 2 SGND (power) "Ground Connection for the LTC3536. A ground plane is highly recommended. Sensitive analog components terminated at ground should connect to the GND pin with a Kelvin connection, separated from the high current path", 3 MODE/SYNC (in) "Pulse Width Modulation/Burst Mode Selection and Synchronization Input. Driving MODE to a logic 0 state programs fixed frequency, low noise PWM operation. Driving MODE to logic 1 state programs Burst Mode operation for (See Datasheet)", 4 SW1 "Switch Pin. Connect to internal power switches A and B. Connect one side of the buck-boost inductor to SW1. Provide a short wide PCB trace from the inductor to SW1 to minimize voltage transients and noise", 5 PGND (power) "Power Ground.", 6 SW2 "Switch Pin. Connect to internal power switches C and D. Connect one side of the buck-boost inductor to SW2. Provide a short wide PCB trace from the inductor to SW2 to minimize voltage transients and noise", 7 VOUT (power) "Output Voltage. This pin is the power output for the regulator. A low ESR capacitor should be placed between this pin and the ground plane. The capacitor should be placed as close to this pin as possible and have a short (See Datasheet)", 8 VIN (power) "Power Input for the Converter. A low ESR 10uF or larger bypass capacitor should be connected between this pin and ground. The capacitor should be placed as close to this pin as possible and have a short return path to ground.", 9 VIN (power) "Power Input for the Converter. A low ESR 10uF or larger bypass capacitor should be connected between this pin and ground. The capacitor should be placed as close to this pin as possible and have a short return path to ground.", 10 ~{SHDN} (in) "Enable Input. A logic 1 on S\H\D\N\ activates the buck-boost regulator. A logic 0 on S\H\D\N\ deactivates the buck-boost regulator.", 11 FB (in) "Output Voltage Programming Feedback Divider Input. The regulator output voltage is programmed by the voltage divider connected to FB.", 12 VC "Error Amplifier Output. Frequency compensation components are connected between VC and FB to provide stable operation of the converter. Refer to the Applications Information section of this data sheet for design details.", 13 EP (power) "Power Ground. The exposed pad must be soldered to the PCB and electrically connected to ground through the shortest and lowest impedance connection possible"

## LTC3538EDCB#PBF
designator U?
800 mA Synchronous Buck-Boost DC/DC Converter, 8-pin SON (DCB-8), -40 to 85 degC, Pb-Free; Manufacturer: Linear Technology; PartNumber: LTC3538EDCB#PBF; Number of Outputs: 1; DatasheetVersion: Rev. B; PackageVersion: Rev. A, 06/2010; PackageReference: DCB-8; PackageDescription: 8-Pin Plastic DFN, Body 2 x 3 mm, Pitch 0.45 mm; Supplier 1: Farnell; Supplier Part Number 1: 2308146; Supplier 2: Newark; Supplier Part Number 2: 78T3200; RoHS: TRUE; Mounting Technology: Surface Mount; ComponentLink1Description: Manufacturer URL; ComponentLink1URL: http://www.linear.com/; ComponentLink2Description: Datasheet; ComponentLink2URL: http://cds.linear.com/docs/en/datasheet/3538fb.pdf; ComponentLink3Description: Package Specification; ComponentLink3URL: http://cds.linear.com/docs/en/packaging/DFN_8_05-08-1718.pdf
footprint LT-DCB-8_V (SON, 8-Leads, Body 3x2mm, Pitch 0.45mm, Thermal Pad 1.65x1.35mm)
pins: 1 FB (in) "Feedback Input to Error Amplifer. Connect resistive divider tap from VOUT to this pin to set the output voltage. The output voltage can be adjusted from 1.8V to 5.25V. Referring to the Block Diagram the output voltage is (See Datasheet)", 2 VC "Error Amplifier Output. A frequency compensation network should be connected between this pin and FB to compensate the loop. See Closing the Feedback Loop section of the datasheet for further information. Pulling VC below 0.(See Datasheet)", 3 GND (power) "Ground.", 4 BURST (in) "Burst Mode Select Input. BURST = Low for fixed frequency PWM operation. BURST = High for Burst Mode operation", 5 VOUT (power) "Power Supply Output. This pin should be connected to a low ESR output capacitor. The capacitor should be placed as close to the IC as possible and should have a short return to GND.", 6 SW2 "Switch Pin where the Internal Switches C and D are Connected. An optional Schottky diode can be connected from SW2 to VOUT for a moderate effi ciency improvement. Keep the trace length as short as possible to minimize EMI.", 7 SW1 "Switch Pin where the Internal Switches A and B are Connected. Connect an inductor from SW1 to SW2. An optional Schottky diode can be connected from SW1 to ground for a moderate efficiency improvement. Keep the trace length (See Datasheet)", 8 VIN (power) "Input Supply. This input provides power to the IC and also supplies current to switch A. A ceramic bypass capacitor (4.7uF or larger) is recommended as close to VIN and GND as possible.", 9 EP (power) "GND. The exposed pad must be electrically connected to the board ground for proper electrical and thermal performance."

## LTC3538EDCB#TRMPBF
designator U?
800 mA Synchronous Buck-Boost DC/DC Converter, 8-pin SON (DCB-8), -40 to 85 degC, Pb-Free, Mini Tape and Reel; Manufacturer: Linear Technology; PartNumber: LTC3538EDCB#TRMPBF; Number of Outputs: 1; DatasheetVersion: Rev. B; PackageVersion: Rev. A, 06/2010; PackageReference: DCB-8; PackageDescription: 8-Pin Plastic DFN, Body 2 x 3 mm, Pitch 0.45 mm; Supplier 1: Digi-Key; Supplier Part Number 1: LTC3538EDCB#TRMPBFTR-ND; Supplier 2: Digi-Key; Supplier Part Number 2: LTC3538EDCB#TRMPBFCT-ND; Supplier 3: Digi-Key; Supplier Part Number 3: LTC3538EDCB#TRMPBFDKR-ND; Supplier 4: Farnell; Supplier Part Number 4: 1663907; Supplier 5: Newark; Supplier Part Number 5: 56M7962; Packing: Mini Tape and Reel; RoHS: TRUE; Mounting Technology: Surface Mount; ComponentLink1Description: Manufacturer URL; ComponentLink1URL: http://www.linear.com/; ComponentLink2Description: Datasheet; ComponentLink2URL: http://cds.linear.com/docs/en/datasheet/3538fb.pdf; ComponentLink3Description: Package Specification; ComponentLink3URL: http://cds.linear.com/docs/en/packaging/DFN_8_05-08-1718.pdf
footprint LT-DCB-8_V (SON, 8-Leads, Body 3x2mm, Pitch 0.45mm, Thermal Pad 1.65x1.35mm)
pins: 1 FB (in) "Feedback Input to Error Amplifer. Connect resistive divider tap from VOUT to this pin to set the output voltage. The output voltage can be adjusted from 1.8V to 5.25V. Referring to the Block Diagram the output voltage is (See Datasheet)", 2 VC "Error Amplifier Output. A frequency compensation network should be connected between this pin and FB to compensate the loop. See Closing the Feedback Loop section of the datasheet for further information. Pulling VC below 0.(See Datasheet)", 3 GND (power) "Ground.", 4 BURST (in) "Burst Mode Select Input. BURST = Low for fixed frequency PWM operation. BURST = High for Burst Mode operation", 5 VOUT (power) "Power Supply Output. This pin should be connected to a low ESR output capacitor. The capacitor should be placed as close to the IC as possible and should have a short return to GND.", 6 SW2 "Switch Pin where the Internal Switches C and D are Connected. An optional Schottky diode can be connected from SW2 to VOUT for a moderate effi ciency improvement. Keep the trace length as short as possible to minimize EMI.", 7 SW1 "Switch Pin where the Internal Switches A and B are Connected. Connect an inductor from SW1 to SW2. An optional Schottky diode can be connected from SW1 to ground for a moderate efficiency improvement. Keep the trace length (See Datasheet)", 8 VIN (power) "Input Supply. This input provides power to the IC and also supplies current to switch A. A ceramic bypass capacitor (4.7uF or larger) is recommended as close to VIN and GND as possible.", 9 EP (power) "GND. The exposed pad must be electrically connected to the board ground for proper electrical and thermal performance."

## LTC3538EDCB#TRPBF
designator U?
800 mA Synchronous Buck-Boost DC/DC Converter, 8-pin SON (DCB-8), -40 to 85 degC, Pb-Free, Tape and Reel; Manufacturer: Linear Technology; PartNumber: LTC3538EDCB#TRPBF; Number of Outputs: 1; DatasheetVersion: Rev. B; PackageVersion: Rev. A, 06/2010; PackageReference: DCB-8; PackageDescription: 8-Pin Plastic DFN, Body 2 x 3 mm, Pitch 0.45 mm; Supplier 1: Digi-Key; Supplier Part Number 1: LTC3538EDCB#TRPBF-ND; Supplier 2: Newark; Supplier Part Number 2: 56M7963; Packing: Tape and Reel; RoHS: TRUE; Mounting Technology: Surface Mount; ComponentLink1Description: Manufacturer URL; ComponentLink1URL: http://www.linear.com/; ComponentLink2Description: Datasheet; ComponentLink2URL: http://cds.linear.com/docs/en/datasheet/3538fb.pdf; ComponentLink3Description: Package Specification; ComponentLink3URL: http://cds.linear.com/docs/en/packaging/DFN_8_05-08-1718.pdf
footprint LT-DCB-8_V (SON, 8-Leads, Body 3x2mm, Pitch 0.45mm, Thermal Pad 1.65x1.35mm)
pins: 1 FB (in) "Feedback Input to Error Amplifer. Connect resistive divider tap from VOUT to this pin to set the output voltage. The output voltage can be adjusted from 1.8V to 5.25V. Referring to the Block Diagram the output voltage is (See Datasheet)", 2 VC "Error Amplifier Output. A frequency compensation network should be connected between this pin and FB to compensate the loop. See Closing the Feedback Loop section of the datasheet for further information. Pulling VC below 0.(See Datasheet)", 3 GND (power) "Ground.", 4 BURST (in) "Burst Mode Select Input. BURST = Low for fixed frequency PWM operation. BURST = High for Burst Mode operation", 5 VOUT (power) "Power Supply Output. This pin should be connected to a low ESR output capacitor. The capacitor should be placed as close to the IC as possible and should have a short return to GND.", 6 SW2 "Switch Pin where the Internal Switches C and D are Connected. An optional Schottky diode can be connected from SW2 to VOUT for a moderate effi ciency improvement. Keep the trace length as short as possible to minimize EMI.", 7 SW1 "Switch Pin where the Internal Switches A and B are Connected. Connect an inductor from SW1 to SW2. An optional Schottky diode can be connected from SW1 to ground for a moderate efficiency improvement. Keep the trace length (See Datasheet)", 8 VIN (power) "Input Supply. This input provides power to the IC and also supplies current to switch A. A ceramic bypass capacitor (4.7uF or larger) is recommended as close to VIN and GND as possible.", 9 EP (power) "GND. The exposed pad must be electrically connected to the board ground for proper electrical and thermal performance."

## LTC3539EDCB#PBF
designator U?
2 A, 1 MHz / 2 MHz Synchronous Step-Up DC/DC Converter, 8-pin SON (DCB-8), -40 to 85 degC, Pb-Free; Manufacturer: Linear Technology; PartNumber: LTC3539EDCB#PBF; Number of Outputs: 1; DatasheetVersion: Rev. B; PackageVersion: Rev. A, 06/2010; PackageReference: DCB-8; PackageDescription: 8-Pin Plastic DFN, Body 2 x 3 mm, Pitch 0.45 mm; Supplier 1: Newark; Supplier Part Number 1: 78T3202; RoHS: TRUE; Mounting Technology: Surface Mount; ComponentLink1Description: Manufacturer URL; ComponentLink1URL: http://www.linear.com/; ComponentLink2Description: Datasheet; ComponentLink2URL: http://cds.linear.com/docs/en/datasheet/35392fb.pdf; ComponentLink3Description: Package Specification; ComponentLink3URL: http://cds.linear.com/docs/en/packaging/DFN_8_05-08-1718.pdf
footprint LT-DCB-8_V (SON, 8-Leads, Body 3x2mm, Pitch 0.45mm, Thermal Pad 1.65x1.35mm)
pins: 1 SW "Switch Pin. Connect inductor between SW and VIN. Keep PCB trace lengths as short and wide as possible to reduce EMI. If the inductor current falls to zero, or SHDN is low, an internal anti-ring resistor is connected from SW (See Datasheet)", 2 PGND (power) "Signal and Power Ground. Provide a short direct PCB path between PGND, GND and the (-) side of the input and output capacitors.", 3 GND (power) "Signal and Power Ground. Provide a short direct PCB path between PGND, GND and the (-) side of the input and output capacitors.", 4 VIN (power) "Battery Input Voltage. Connect a minimum of 2.2uF ceramic decoupling capacitor from this pin to ground.", 5 ~{SHDN} (in) "Logic Controlled Shutdown Input. There is an internal 4Mohm pull-down on this pin. S\H\D\N\ = High: Normal operation. S\H\D\N\ = Low: Shutdown, quiescent current <1uA.", 6 FB (in) "Feedback Input to the gm Error Amplifier.Connect resistor divider tap to this pin. The output voltage can be adjusted from 1.5V to 5.25V by: VOUT = 1.20V ?[1 + (R2/R1)]", 7 MODE (in) "Burst Mode Pin. A logic controlled input to select either automatic Burst Mode operation or forced fixed frequency operation. MODE = High: Burst Mode operation at light loads. MODE = Low: Fixed frequency PWM Mode.", 8 VOUT (in) "Output Voltage Sense and Drain of the Internal Synchronous Rectifier. PCB trace length from VOUT to the output filter capacitor should be as short and wide as possible.", 9 EP (power) "The exposed pad must be soldered to the PCB ground plane. It serves as another ground connection, and as a means of conducting heat away from the die."